# Altium schematic symbol library EL.XXX.T01.SCHLIB: 178 symbols (part 3 of 3)
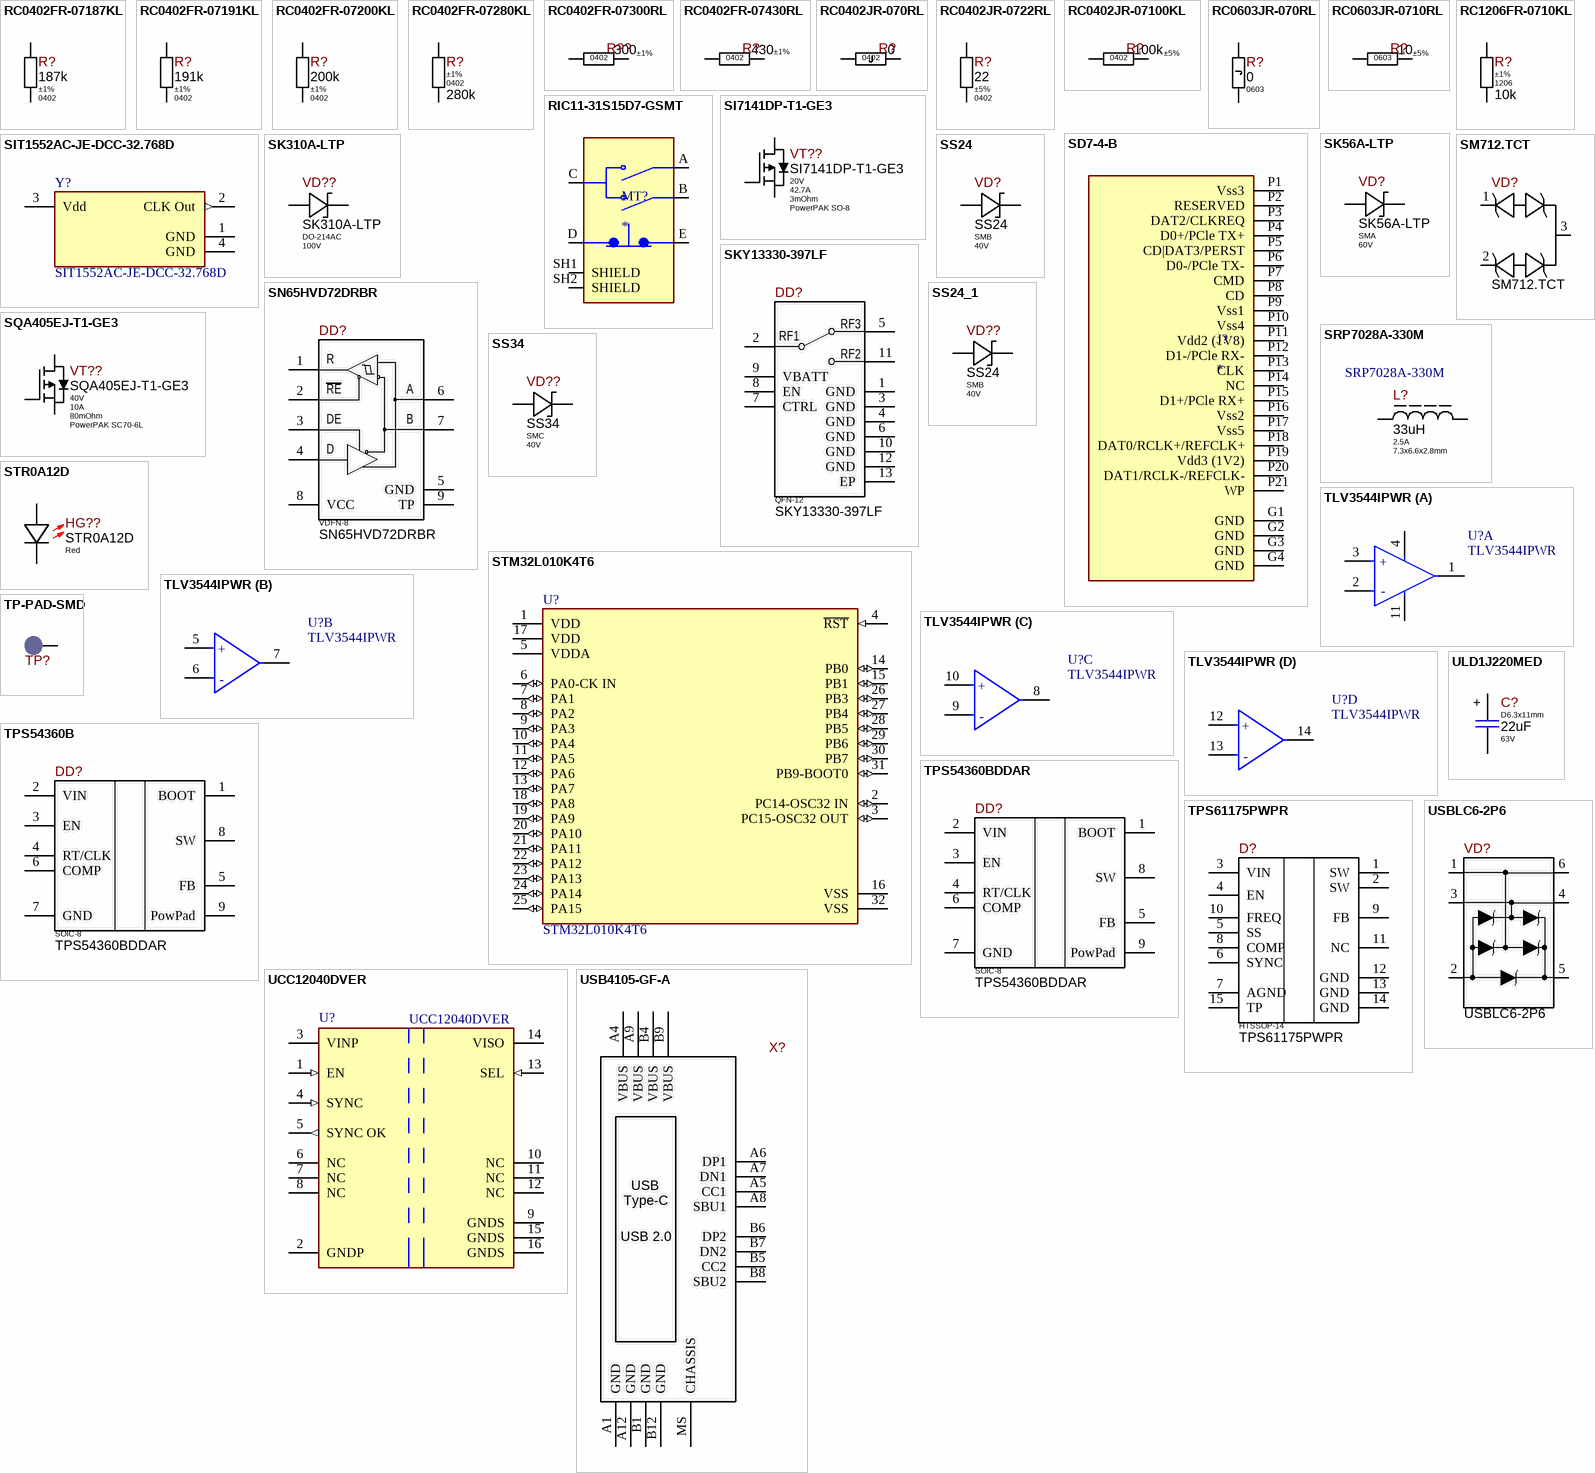
[diagram p6: symbols RC0402FR-07187KL to USBLC6-2P6]

## SN65HVD72DRBR
designator DD?  Package: VDFN-8  (hidden comment: SN65HVD72DRBR)
3.3V 1/1 Transceiver Half RS422 Up to 250 kbps, RS485 With IEC ESD protection, SON-8; Manufacturer: Texas Instruments; Standard Lead Time: 16 Weeks; Component Status: Released; Replacement: NONE; Part Type: Transceivers / RS-232/RS-422/RS-485; Component Type: SMD; Temperature Range: -40°C ~ 125°C; ComponentLink1URL: https://www.ti.com/lit/ds/symlink/sn65hvd72.pdf; Supplier 1: Digi-Key; Supplier Part Number 1: 296-40520-2-ND; Price: 0.709; ComponentLink1Description: Datasheet; Part Number: SN65HVD72DRBR
footprint TI-SON8-65P300X100_HS
footprint TI-SON8-65P300X100_HS_AbsentVias
pins: 1 RO, 2 ~{RE}, 3 DE, 4 DI, 5 GND, 6 A, 7 B, 8 VCC, 9 TP
text: R; RE; D

## SQA405EJ-T1-GE3
designator VT??, comment Part Number: SQA405EJ-T1-GE3  Vds: 40V  Id: 10A  Rds: 80mOhm  Package: PowerPAK SC70-6L  (hidden comment: SQA405EJ)
-40V, -10A max P-Channel TrenchFET Power MOSFET, 38mOhm @ Vgs = -4.5V; Manufacturer: Vishay Siliconix; Component Status: Released; Standard Lead Time: 10 Weeks; Replacement: NONE; Part Type: P-Channel; Component Type: SMD; Temperature Range: -55°C ~ 175 °C; ComponentLink1URL: https://www.vishay.com/docs/76032/sqa405ej.pdf; Supplier 1: Mouser; Supplier Part Number 1: 78-SQA405EJ-T1_GE3; Price: NONE; ComponentLink1Description: Datasheet
footprint U-DFN2020-6_SLDR
footprint SC-70-6L_VS
footprint U-DFN2020-6
pins: D Drain, G Gate, S Source

## SRP7028A-330M
designator L?, comment Current: 2.5A  Package: 7.3x6.6x2.8mm  Part Number: SRP7028A-330M  (hidden comment: 33uH)
33uH Shielded Wirewound Power Inductor 2.5A 240mOhm Max; Manufacturer: Bourns Inc; Tolerance: ±20%; Component Status: Released; Standard Lead Time: 24 Weeks; Replacement: NONE; Part Type: Power / Ferrite Core; Saturation Current: 2.5A; Component Type: SMD; Temperature Range: -40°C ~ 150°C; ComponentLink1URL: https://eu.mouser.com/datasheet/2/54/srp7028a-1391359.pdf; Supplier 1: Mouser; Supplier Part Number 1: 652-SRP7028A-330M; Price: 0.807; ComponentLink1Description: Datasheet; Value: 33uH
footprint SRP7028A-Series
pins: 1, 2

## SS24
designator VD?  Package: SMB  Voltage: 40V  (hidden comment: SS24)
Diode Schottky 40V 2A, SMB; Manufacturer: Vishay Semiconductor; Component Status: Released; Standard Lead Time: 11 Weeks; Vf: 500mV @ 2A; Replacement: NONE; Part Type: Schottky; Component Type: SMD; Marking: SS24; Current: 2A; Temperature Range: -65°C ~ 125°C; ComponentLink1URL: https://www.vishay.com/docs/88748/ss22.pdf; Supplier 1: Digi-Key; Supplier Part Number 1: SS24-E3/52TGITR-ND; Price: 0.03; ComponentLink1Description: Datasheet; Part Number: SS24
footprint SMB_MED
footprint SMB_HI
pins: AN, CA

## SS24_1
designator VD??, comment Package: SMB  Voltage: 40V  (hidden comment: SS24)
Diode Schottky 40V 2A, SMB; Manufacturer: Vishay Semiconductor; Component Status: Released; Standard Lead Time: 11 Weeks; Vf: 500mV @ 2A; Replacement: NONE; Part Number: SS24; Part Type: Schottky; Component Type: SMD; Marking: SS24; Current: 2A; Temperature Range: -65°C ~ 125°C; ComponentLink1URL: https://www.vishay.com/docs/88748/ss22.pdf; Supplier 1: Digi-Key; Supplier Part Number 1: SS24-E3/52TGITR-ND; Price: 0.03; ComponentLink1Description: Datasheet
footprint SMB_MED
footprint SMB_HI
pins: AN, CA

## SS34
designator VD??  Package: SMC  Voltage: 40V  (hidden comment: SS34)
Diode Schottky 40V 3A, SMC; Manufacturer: Onsemi; Component Status: Released; Standard Lead Time: 14 Weeks; Vf: 500mV @ 3A; Replacement: NONE; Part Number: SS34; Part Type: Schottky; Component Type: SMD; Marking: SS34; Current: 3A; Temperature Range: -55°C ~ 150°C; ComponentLink1URL: https://www.onsemi.com/pdf/datasheet/ss39-d.pdf; Supplier 1: Digi-Key; Supplier Part Number 1: SS34FSCT-ND; Price: 0.03; ComponentLink1Description: Datasheet
footprint SMC
pins: AN, CA

## STM32L010K4T6
designator U?
16/32-BITS MICROS; Manufacturer: STMicroelectronics; Number Of Cores: 1; Core Architecture: ARM Cortex-M0+; Number Of Adc Channels: 10; Data Bus Width: 32bits; Frequency: 32MHz; Number Of I/Os: 26; Memory Size: 16KBytes; Max Junction Temp: +105°C; Memory Type: FLASH; Number Of Uart Channels: 2; Ram Size: 2KBytes; Number Of Timers/Counters: 5; Nominal Supply Current: 22-5400uA; Interface: I2C,SPI,UART,USART,SMBus; Min Supply Voltage: 1.8V; Max Supply Voltage: 3.6V; Standoff Height: 0.05mm; ComponentLink2Description: Datasheet; Temperature Range High: +85°C; Device Class L2: Embedded Processors and Controllers; Package: LQFP32-5V; Manufacturer Part Number: STM32L010K4T6; Ambient Temperature Range Low: -40°C; RoHS: TRUE; Digikey Description: 16/32-BITS MICROS; Lead Free: Yes; Category: IC; Height: 1.6mm; ComponentLink2URL: https://www.st.com/resource/en/datasheet/stm32l010f4.pdf; Temperature Range Low: -40°C; Automotive: No; Device Class L3: Microcontrollers; Device Class L1: Integrated Circuits (ICs); Octopart: https://octopart.com/stm32l010k4t6-stmicroelectronics-96493833; Temperature: -40°C to +85°C; Number Of Spi Channels: 1; Number Of I2C Channels: 1; Ambient Temperature Range High: +85°C; Number Of A/D Converters: 1; Part Number: STM32L010K4T6; Supplier 1: Mouser; Supplier Part Number 1: 511-STM32L010K4T6
footprint FP-LQFP32-5V-MFG
footprint FP-LQFP32-5V-IPC_C
footprint FP-LQFP32-5V-IPC_B
footprint FP-LQFP32-5V-IPC_A
pins: 1 VDD (power), 2 PC14-OSC32 IN (io), 3 PC15-OSC32 OUT (io), 4 ~{RST} (in), 5 VDDA (power), 6 PA0-CK IN (io), 7 PA1 (io), 8 PA2 (io), 9 PA3 (io), 10 PA4 (io), 11 PA5 (io), 12 PA6 (io), 13 PA7 (io), 14 PB0 (io), 15 PB1 (io), 16 VSS (power), 17 VDD (power), 18 PA8 (io), 19 PA9 (io), 20 PA10 (io), 21 PA11 (io), 22 PA12 (io), 23 PA13 (io), 24 PA14 (io), 25 PA15 (io), 26 PB3 (io), 27 PB4 (io), 28 PB5 (io), 29 PB6 (io), 30 PB7 (io), 31 PB9-BOOT0 (io), 32 VSS (power)

## STR0A12D
designator HG??  Color: Red  (hidden comment: STR0A12D)
Mid Power LED, Red 620nm, Vf 2.2V, 10 ~ 14lm @ 60 mA, 120°; Manufacturer: Seoul Semiconductor; Component Status: Released; Replacement: NONE; Part Type: LED; Component Type: SMD; Package: 3.5x2.8mm; Wavelength: 620nm; Temperature Range: -40°C ~ 85°C; ComponentLink1URL: https://octopart.com/datasheet/str0a12d-seoul+semiconductor-84897888; Supplier 1: Avnet; Supplier Part Number 1: STR0A12D; Price: 0.072; ComponentLink1Description: Datasheet; Part Number: STR0A12D
footprint STx0A12D
pins: AN Anode, CA Cathode

## TLV3544IPWR
designator U?
Operational Amplifiers - Op Amps Quad 200MHz RRIO CMOS Operational Amp; Output Current per Channel: 100mA; Input Offset Voltage (Vos): 2mV; Number of Circuits: 4; Operating Supply Current: 5.2mA; Input Bias Current: 3pA; Gain Bandwidth Product: 100MHz; Slew Rate: 150V/µs; -3db Bandwidth: 200MHz; Number of Channels: 4; Max Operating Temperature: 125°C; Min Operating Temperature: -40°C; RoHS Compliant: Yes; Number of Pins: 14; Case/Package: TSSOP; Mount: Surface Mount; Packaging: Cut Tape; Part Number: TLV3544IPWR; Supplier 1: Mouser; Supplier Part Number 1: 595-TLV3544IPWR; ComponentLink1Description: Datasheet; ComponentLink1URL: https://www.ti.com/lit/gpn/tlv3544
footprint TSSOP-14
part A pins: 1 OUT A, 2 -IN A (hiz), 3 +IN A (hiz), 4 V+ (power), 11 V- (power)
part B pins: 5 +IN B (hiz), 6 -IN B (hiz), 7 OUT B
part C pins: 8 OUT C, 9 -IN C (hiz), 10 +IN C (hiz)
part D pins: 12 +IN D (hiz), 13 -IN D (hiz), 14 OUT D
part A text: +; -
part B text: +; -
part C text: +; -
part D text: +; -

## TP-PAD-SMD
designator TP?, comment LED_LINK  (value not drawn)  (no BOM)
Test Point SMD Pad 1.0mm/1.5mm/2mm; Part Number: TP-PAD-SMD; Part Type: Test Point; Component Type: SMD
footprint TP_SMD_1mm
footprint TP_SMD_1.5mm
footprint TP_SMD_2mm
footprint TP_SMD_2.8mm
pins: 1

## TPS54360B
designator DD?, comment Package: SOIC-8  (hidden comment: TPS54360BDDAR)
60V Input, 3.5A, Step-Down DC/DC Converter With Eco-Mode, SOIC-8 EP; Manufacturer: Texas Instruments; Standard Lead Time: 16 Weeks; Replacement: NONE; Component Status: Released; Part Type: Power / DC-DC / Buck; Component Type: SMD; Temperature Range: -40°C ~ 150°C; ComponentLink1URL: https://www.ti.com/lit/ds/symlink/tps54360b.pdf; Supplier 1: Digi-Key; Supplier Part Number 1: 296-TPS54360BDDARTR-ND; ComponentLink1Description: Datasheet; Price: 5,11; Part Number: TPS54360BDDAR
footprint SOIC127P620X170_HS-9N
pins: 1 BOOT, 2 VIN, 3 EN, 4 RT/CLK, 5 FB, 6 COMP, 7 GND, 8 SW, 9 PowPad

## TPS54360BDDAR
designator DD?  Package: SOIC-8  (hidden comment: TPS54360BDDAR)
60V Input, 3.5A, Step-Down DC/DC Converter With Eco-Mode, SOIC-8 EP; Manufacturer: Texas Instruments; Standard Lead Time: 16 Weeks; Replacement: NONE; Component Status: Released; Part Type: Power / DC-DC / Buck; Component Type: SMD; Temperature Range: -40°C ~ 150°C; ComponentLink1URL: https://www.ti.com/lit/ds/symlink/tps54360b.pdf; Supplier 1: Digi-Key; Supplier Part Number 1: 296-TPS54360BDDARTR-ND; ComponentLink1Description: Datasheet; Price: 5,11; Part Number: TPS54360BDDAR
footprint SOIC127P620X170_HS-9N
pins: 1 BOOT, 2 VIN, 3 EN, 4 RT/CLK, 5 FB, 6 COMP, 7 GND, 8 SW, 9 PowPad

## TPS61175PWPR
designator D?  Package: HTSSOP-14  (hidden comment: TPS61175PWPR)
3A High-Voltage Boost, Flyback, SEPIC Converter With Soft Start and Programmable Switching Frequency, HTSSOP-14; Manufacturer: Texas Instruments; Standard Lead Time: 35 Weeks; Replacement: NONE; Component Status: Released; Part Type: Power / DC-DC; Component Type: SMD; Temperature Range: -40°C ~ 85°C; ComponentLink1URL: https://www.ti.com/lit/ds/symlink/tps61175.pdf; Supplier 1: Digi-Key; Supplier Part Number 1: 296-24013-2-ND; ComponentLink1Description: Datasheet; Price: 2.23; Part Number: TPS61175PWPR
footprint TSSOP-14_POWER
pins: 1 SW, 2 SW, 3 VIN, 4 EN, 5 SS, 6 SYNC, 7 AGND, 8 COMP, 9 FB, 10 FREQ, 11 NC, 12 GND, 13 GND, 14 GND, 15 TP

## UCC12040DVER
designator U?
DC DC CONVERTER 5V 500mW; Number of Outputs: 1; Input Voltage - Min: 4.5V; Input Voltage - Max: 5.5V; Isolation Voltage: 3 kV; Unit Weight: 5 g; Part Number: UCC12040DVER; Supplier 1: Mouser; Supplier Part Number 1: 595-UCC12040DVER; Mounting Style: SMD/SMT; ComponentLink1Description: Datasheet; ComponentLink1URL: https://www.ti.com/lit/ds/symlink/ucc12040.pdf?ts=1755529908774&ref_url=https%253A%252F%252Fwww.ti.com%252Fproduct%252FUCC12040; Output Power: 500 mW; Input Voltage, Nominal: 5V; Package/Case: SOIC-16; Product Type: Isolated DC-DC Converters; Subcategory: DC-DC Converters
footprint FP-DVE0016A-MFG
footprint FP-DVE0016A-IPC_C
footprint FP-DVE0016A-IPC_B
footprint FP-DVE0016A-IPC_A
pins: 1 EN (in), 2 GNDP (power), 3 VINP (power), 4 SYNC (in), 5 SYNC OK (out), 6 NC, 7 NC, 8 NC, 9 GNDS (power), 10 NC, 11 NC, 12 NC, 13 SEL (in), 14 VISO (power), 15 GNDS (power), 16 GNDS (power)

## ULD1J220MED
designator C?, comment value 22uF  Package: D6.3x11mm  Voltage: 63V  (hidden comment: 22uFx63V)
22uF 63V ±20% D6.3x11mm Aluminum Electrolytic Capacitor, Ripple Current 170mA; Part Number: ULD1J220MED; Manufacturer: Nichicon; Standard Lead Time: 80 Weeks; Component Status: Released; Dielectric Type: NONE; Part Type: Aluminum; Component Type: PTH; Temperature Range: -25°C ~ 105°C; Tolerance: ±20%; ComponentLink1URL: https://eu.mouser.com/datasheet/2/293/e_uld-1513276.pdf; Supplier 1: Mouser; Supplier Part Number 1: 647-ULD1J220MED; Replacement: NONE; Price: 0.14; ComponentLink1Description: Datasheet
footprint CAP-AE-PTH-63D05x110H15
pins: 1, 2
text: +

## USB4105-GF-A
designator X?  (value not drawn)
USB Type-C Connector, USB2.0, 16 Contacts, Right Angle; Manufacturer: GCT; Replacement: NONE; Component Status: Released; Part Number: USB4105-GF-A; Part Type: USB; Component Type: SMD; Temperature Range: -40°C ~ 85°C; ComponentLink1URL: https://eu.mouser.com/datasheet/2/837/USB4105-2888174.pdf; Supplier 1: Digi-Key; Supplier Part Number 1: 2073-USB4105-GF-ATR-ND; Price: 0,507; ComponentLink1Description: Datasheet
footprint USB4105-GF-A
pins: A1 GND, A4 VBUS, A5 CC1, A6 DP1, A7 DN1, A8 SBU1, A9 VBUS, A12 GND, B1 GND, B4 VBUS, B5 CC2, B6 DP2, B7 DN2, B8 SBU2, B9 VBUS, B12 GND, MS CHASSIS
text: Type-C; USB 2.0

## USBLC6-2P6
designator VD?
TVS Diode 17V @ 5A (8/20us) Clamping, Very Low Capacitance 3.5pF max, Low Leakage, Rail-to-Rail ESD Protection Diode Array, SOT-666; Manufacturer: STMicroelectronics; Marking: F; Standard Lead Time: 29 Weeks; Voltage: 6V; Replacement: NONE; Component Status: Released; Part Type: TVS / ESD Protection; Component Type: SMD; Package: SOT-666; Temperature Range: -40°C ~ 125°C; ComponentLink1URL: https://www.st.com/content/ccc/resource/technical/document/datasheet/06/1d/48/9c/6c/20/4a/b2/CD00050750.pdf/files/CD00050750.pdf/jcr:content/translations/en.CD00050750.pdf; Supplier 1: Digi-Key; Supplier Part Number 1: 497-5026-2-ND; ComponentLink1Description: Datasheet; Current: 5A; Price: 0,0908; Part Number: USBLC6-2P6
footprint SOT-666
pins: 1 D+IN, 2 GND, 3 D-IN, 4 D-OUT, 5 VBUS, 6 D+OUT

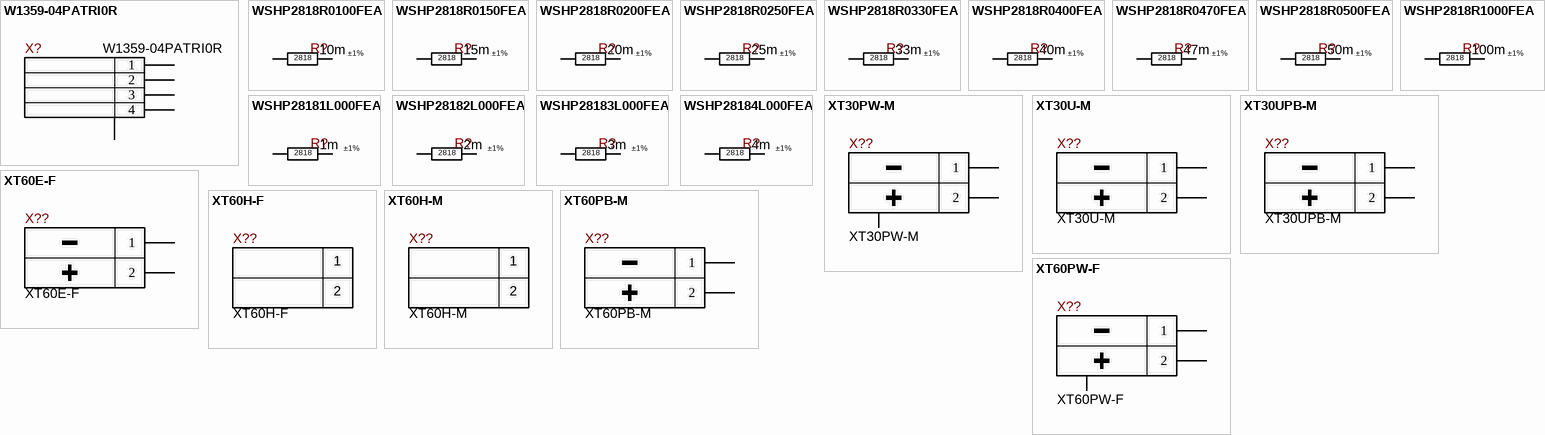
[diagram p4: symbols W1359-04PATRI0R to XT60PW-F]

## W1359-04PATRI0R
designator X?
1.25mm Wire-to-Board Header, Vertical, SMT, 4 pin; Manufacturer: Hsuan Mao Technology; Component Status: Released; Replacement: 53398-0471; Part Type: Wire-to-Board / 1.25mm; Component Type: SMD; Temperature Range: -40°C ~ 85°C; Price: 0.06; Part Number: W1359-04PATRI0R
footprint W1359-04PATXI0R_REC
footprint W1359-04PATXI0R_DBG
pins: 1, 2, 3, 4, MP MountPad

## WSHP2818R0100FEA
designator R?, comment Tolerance: ±1%  Package: 2818  (hidden comment: 10m)
Current Sense Resistors - SMD 10W .010ohms 1%; Part Number: WSHP2818R0100FEA; Manufacturer: Vishay; Temperature Stability: ±100ppm/°C; Replacement: NONE; Component Status: Released; Component Type: SMD; Power Rating: 10W; Temperature Range: -55°C ~ 155°C; ComponentLink1URL: https://www.vishay.com/doc?30347; Supplier 1: Mouser; Supplier Part Number 1: 71-WSHP2818R0100FEA; ComponentLink1Description: Datasheet; Part Type: Thick Film; Value: 10m
footprint WSHP2818
pins: 1, 2

## WSHP2818R0150FEA
designator R?, comment Tolerance: ±1%  Package: 2818  (hidden comment: 15m)
Current Sense Resistors - SMD 10W .015ohms 1%; Part Number: WSHP2818R0150FEA; Manufacturer: Vishay; Temperature Stability: ±100ppm/°C; Replacement: NONE; Component Status: Released; Component Type: SMD; Power Rating: 10W; Temperature Range: -55°C ~ 155°C; ComponentLink1URL: https://www.vishay.com/doc?30347; Supplier 1: Mouser; Supplier Part Number 1: 71-WSHP2818R0150FEA; ComponentLink1Description: Datasheet; Part Type: Thick Film; Value: 15m
footprint WSHP2818
pins: 1, 2

## WSHP2818R0200FEA
designator R?, comment Tolerance: ±1%  Package: 2818  (hidden comment: 20m)
Current Sense Resistors - SMD 10W .020ohms 1%; Part Number: WSHP2818R0200FEA; Manufacturer: Vishay; Temperature Stability: ±100ppm/°C; Replacement: NONE; Component Status: Released; Component Type: SMD; Power Rating: 10W; Temperature Range: -55°C ~ 155°C; ComponentLink1URL: https://www.vishay.com/doc?30347; Supplier 1: Mouser; Supplier Part Number 1: 71-WSHP2818R0200FEA; ComponentLink1Description: Datasheet; Part Type: Thick Film; Value: 20m
footprint WSHP2818
pins: 1, 2

## WSHP2818R0250FEA
designator R?, comment Tolerance: ±1%  Package: 2818  (hidden comment: 25m)
Current Sense Resistors - SMD 10W .025ohms 1%; Part Number: WSHP2818R0250FEA; Manufacturer: Vishay; Temperature Stability: ±100ppm/°C; Replacement: NONE; Component Status: Released; Component Type: SMD; Power Rating: 10W; Temperature Range: -55°C ~ 155°C; ComponentLink1URL: https://www.vishay.com/doc?30347; Supplier 1: Mouser; Supplier Part Number 1: 71-WSHP2818R0250FEA; ComponentLink1Description: Datasheet; Part Type: Thick Film; Value: 25m
footprint WSHP2818
pins: 1, 2

## WSHP2818R0330FEA
designator R?, comment Tolerance: ±1%  Package: 2818  (hidden comment: 33m)
Current Sense Resistors - SMD 10W .033ohms 1%; Part Number: WSHP2818R0330FEA; Manufacturer: Vishay; Temperature Stability: ±100ppm/°C; Replacement: NONE; Component Status: Released; Component Type: SMD; Power Rating: 10W; Temperature Range: -55°C ~ 155°C; ComponentLink1URL: https://www.vishay.com/doc?30347; Supplier 1: Mouser; Supplier Part Number 1: 71-WSHP2818R0330FEA; ComponentLink1Description: Datasheet; Part Type: Thick Film; Value: 33m
footprint WSHP2818
pins: 1, 2

## WSHP2818R0400FEA
designator R?, comment Tolerance: ±1%  Package: 2818  (hidden comment: 40m)
Current Sense Resistors - SMD 10W .040ohms 1%; Part Number: WSHP2818R0400FEA; Manufacturer: Vishay; Temperature Stability: ±100ppm/°C; Replacement: NONE; Component Status: Released; Component Type: SMD; Power Rating: 10W; Temperature Range: -55°C ~ 155°C; ComponentLink1URL: https://www.vishay.com/doc?30347; Supplier 1: Mouser; Supplier Part Number 1: 71-WSHP2818R0400FEA; ComponentLink1Description: Datasheet; Part Type: Thick Film; Value: 40m
footprint WSHP2818
pins: 1, 2

## WSHP2818R0470FEA
designator R?, comment Tolerance: ±1%  Package: 2818  (hidden comment: 47m)
Current Sense Resistors - SMD 10W .047ohms 1%; Part Number: WSHP2818R0470FEA; Manufacturer: Vishay; Temperature Stability: ±100ppm/°C; Replacement: NONE; Component Status: Released; Component Type: SMD; Power Rating: 10W; Temperature Range: -55°C ~ 155°C; ComponentLink1URL: https://www.vishay.com/doc?30347; Supplier 1: Mouser; Supplier Part Number 1: 71-WSHP2818R0470FEA; ComponentLink1Description: Datasheet; Part Type: Thick Film; Value: 47m
footprint WSHP2818
pins: 1, 2

## WSHP2818R0500FEA
designator R?, comment Tolerance: ±1%  Package: 2818  (hidden comment: 50m)
Current Sense Resistors - SMD 10W .050ohms 1%; Part Number: WSHP2818R0500FEA; Manufacturer: Vishay; Temperature Stability: ±100ppm/°C; Replacement: NONE; Component Status: Released; Component Type: SMD; Power Rating: 10W; Temperature Range: -55°C ~ 155°C; ComponentLink1URL: https://www.vishay.com/doc?30347; Supplier 1: Mouser; Supplier Part Number 1: 71-WSHP2818R0500FEA; ComponentLink1Description: Datasheet; Part Type: Thick Film; Value: 50m
footprint WSHP2818
pins: 1, 2

## WSHP2818R1000FEA
designator R?, comment Tolerance: ±1%  Package: 2818  (hidden comment: 100m)
Current Sense Resistors - SMD 10W .100ohms 1%; Part Number: WSHP2818R1000FEA; Manufacturer: Vishay; Temperature Stability: ±100ppm/°C; Replacement: NONE; Component Status: Released; Component Type: SMD; Power Rating: 10W; Temperature Range: -55°C ~ 155°C; ComponentLink1URL: https://www.vishay.com/doc?30347; Supplier 1: Mouser; Supplier Part Number 1: 71-WSHP2818R1000FEA; ComponentLink1Description: Datasheet; Part Type: Thick Film; Value: 100m
footprint WSHP2818
pins: 1, 2

## WSHP28181L000FEA
designator R?, comment Tolerance: ±1%  Package: 2818  (hidden comment: 1m)
Current Sense Resistors - SMD 10W .001ohms 1%; Part Number: WSHP28181L000FEA; Manufacturer: Vishay; Temperature Stability: ±100ppm/°C; Replacement: NONE; Component Status: Released; Component Type: SMD; Power Rating: 10W; Temperature Range: -55°C ~ 155°C; ComponentLink1URL: https://www.vishay.com/doc?30347; Supplier 1: Mouser; Supplier Part Number 1: 71-WSHP28181L000FEA; ComponentLink1Description: Datasheet; Part Type: Thick Film; Value: 1m
footprint WSHP2818
pins: 1, 2

## WSHP28182L000FEA
designator R?, comment Tolerance: ±1%  Package: 2818  (hidden comment: 2m)
Current Sense Resistors - SMD 10W .002ohms 1%; Part Number: WSHP28182L000FEA; Manufacturer: Vishay; Temperature Stability: ±100ppm/°C; Replacement: NONE; Component Status: Released; Component Type: SMD; Power Rating: 10W; Temperature Range: -55°C ~ 155°C; ComponentLink1URL: https://www.vishay.com/doc?30347; Supplier 1: Mouser; Supplier Part Number 1: 71-WSHP28182L000FEA; ComponentLink1Description: Datasheet; Part Type: Thick Film; Value: 2m
footprint WSHP2818
pins: 1, 2

## WSHP28183L000FEA
designator R?, comment Tolerance: ±1%  Package: 2818  (hidden comment: 3m)
Current Sense Resistors - SMD 10W .003ohms 1%; Part Number: WSHP28183L000FEA; Manufacturer: Vishay; Temperature Stability: ±100ppm/°C; Replacement: NONE; Component Status: Released; Component Type: SMD; Power Rating: 10W; Temperature Range: -55°C ~ 155°C; ComponentLink1URL: https://www.vishay.com/doc?30347; Supplier 1: Mouser; Supplier Part Number 1: 71-WSHP28183L000FEA; ComponentLink1Description: Datasheet; Part Type: Thick Film; Value: 3m
footprint WSHP2818
pins: 1, 2

## WSHP28184L000FEA
designator R?, comment Tolerance: ±1%  Package: 2818  (hidden comment: 4m)
Current Sense Resistors - SMD 10W .004ohms 1%; Part Number: WSHP28184L000FEA; Manufacturer: Vishay; Temperature Stability: ±100ppm/°C; Replacement: NONE; Component Status: Released; Component Type: SMD; Power Rating: 10W; Temperature Range: -55°C ~ 155°C; ComponentLink1URL: https://www.vishay.com/doc?30347; Supplier 1: Mouser; Supplier Part Number 1: 71-WSHP28184L000FEA; ComponentLink1Description: Datasheet; Part Type: Thick Film; Value: 4m
footprint WSHP2818
pins: 1, 2

## XT30PW-M
designator X??
2 Pin DC Power Socket, XT30, Male, THT, Right Angle, Yellow, 15A, 500V; Manufacturer: Amass; Replacement: NONE; Part Type: Power Socket; Component Type: PTH; Temperature Range: -20°C ~ 120°C; ComponentLink1URL: https://www.tme.eu/Document/6eb2005a51a52592b3f19e8a450c54c8/XT30PW-M.pdf; Supplier 1: TME; Supplier Part Number 1: XT30PW-M; Price: 0.37753379; ComponentLink1Description: Datasheet; Part Number: XT30PW-M
footprint XT30PW-M
pins: 1, 2, MP

## XT30U-M
designator X??
2 Pin DC Power Socket, XT30, Male, Straight, Yellow, 15A, 500V; Manufacturer: Amass; Replacement: NONE; Part Type: Power Socket; Component Type: PTH; Temperature Range: -20°C ~ 120°C; ComponentLink1URL: https://www.tme.eu/Document/7d9d972ae3468777f69ec2ee99897652/XT30U-M.pdf; Supplier 1: TME; Supplier Part Number 1: XT30U-M; Price: NONE; ComponentLink1Description: Datasheet; Part Number: XT30U-M
footprint XT30U-M
pins: 1, 2

## XT30UPB-M
designator X??
2 Pin DC Power Socket, XT30, Male, THT, Straight, Yellow, 15A, 500V; Manufacturer: Amass; Replacement: NONE; Part Type: Power Socket; Component Type: PTH; Temperature Range: -20°C ~ 120°C; ComponentLink1URL: https://www.tme.eu/Document/e5863b891432488e7531b3c4468225ac/XT30PB-M.pdf; Supplier 1: TME; Supplier Part Number 1: XT30UPB-M; Price: 0.35749076; ComponentLink1Description: Datasheet; Part Number: XT30UPB-M
footprint XT30UPB-M
pins: 1, 2

## XT60E-F
designator X??
2 Pin DC Power Socket, XT60, Female, Straight, Yellow, 30A, 500V, Gold Flash; Manufacturer: Amass; Replacement: NONE; Part Type: Power Socket; Component Type: PTH; Temperature Range: -20°C ~ 120°C; ComponentLink1URL: https://www.tme.eu/Document/172e3180ebad396a946f7e08df14c4b2/XT60E-F.pdf; Supplier 1: TME; Supplier Part Number 1: XT60E-F; Price: NONE; ComponentLink1Description: Datasheet; Part Number: XT60E-F
footprint XT60E-F
pins: 1, 2

## XT60H-F
designator X??  (mechanical)
2 Pin DC Power Socket, XT60, Female, for Cable, Straight, Yellow, 30A, 500V, Gold Flash; Manufacturer: Amass; Replacement: NONE; Part Type: Power Socket; Component Type: NONE; Temperature Range: -20°C ~ 120°C; ComponentLink1URL: https://www.tme.eu/Document/580f3494beb0741fbf705c7febbc9402/XT60H-F.pdf; Supplier 1: TME; Supplier Part Number 1: XT60H-F; Price: 0.41569814; ComponentLink1Description: Datasheet; Part Number: XT60H-F
footprint XT60H-F
text: 1; 2

## XT60H-M
designator X??  (mechanical)
2 Pin DC Power Plug for Cable, XT60, Male, Yellow, 30A, 500V, Gold Flash; Manufacturer: Amass; Replacement: NONE; Part Type: Power Socket; Component Type: NONE; Temperature Range: -20°C ~ 120°C; ComponentLink1URL: https://www.tme.eu/Document/2381b9279fda0fa746cdd23e7e92ac55/XT60H-M.pdf; Supplier 1: TME; Supplier Part Number 1: XT60H-M; Price: NONE; ComponentLink1Description: Datasheet; Part Number: XT60H-M
footprint XT60H-M
text: 1; 2

## XT60PB-M
designator X??
2 Pin DC Power Socket, XT60, Male, THT, Straight, Yellow, 30A, 500V, Gold Flash; Manufacturer: Amass; Replacement: NONE; Part Type: Power Socket; Component Type: PTH; Temperature Range: -20°C ~ 120°C; ComponentLink1URL: https://www.tme.eu/Document/ceb306d6300f4d2860483975b79af125/XT60UPB-M.pdf; Supplier 1: TME; Supplier Part Number 1: XT60PB-M; Price: NONE; ComponentLink1Description: Datasheet; Part Number: XT60PB-M
footprint XT60PB-M
pins: 1, 2

## XT60PW-F
designator X??
2 Pin DC Power Socket, XT60, Female, THT, Right Angle, Yellow, 30A, 500V, Gold Flash; Manufacturer: Amass; Replacement: NONE; Part Type: Power Socket; Component Type: PTH; Temperature Range: -20°C ~ 120°C; ComponentLink1URL: https://www.tme.eu/Document/1191bc2fa3aee3c446e5a895fd8f7983/XT60PW-F.pdf; Supplier 1: TME; Supplier Part Number 1: XT60PW-F; Price: NONE; ComponentLink1Description: Datasheet; Part Number: XT60PW-F
footprint XT60PW-F
pins: 1, 2, MP